# EAGLE library part POTENTIOMETER-4-FACH (library 1A-meinLib)
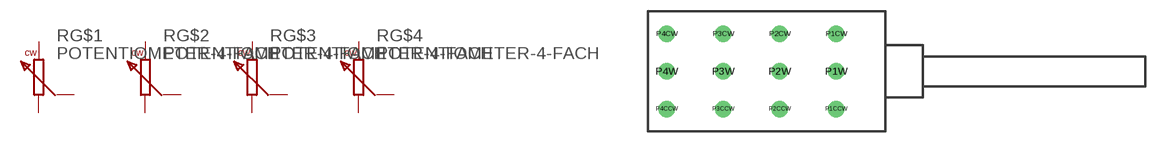
[diagram p271: symbol with the pads of POTENTIOMETER-4FACH; footprint POTENTIOMETER-4FACH]

Designator prefix R; gates G$1=POTENTIOMETER G$2=POTENTIOMETER G$3=POTENTIOMETER G$4=POTENTIOMETER

## POTENTIOMETER-4-FACH  [POTENTIOMETER-4FACH]
P1CCW  G$1:A  pas
P1CW  G$1:E  pas
P1W  G$1:S
P2CCW  G$2:A  pas
P2CW  G$2:E  pas
P2W  G$2:S
P3CCW  G$3:A  pas
P3CW  G$3:E  pas
P3W  G$3:S
P4CCW  G$4:A  pas
P4CW  G$4:E  pas
P4W  G$4:S

## Footprint POTENTIOMETER-4FACH (pad centres in mm)
4-fach Potentiometer, 50kOhm, linear, RUWIDO. Von Zuhause mitgebracht und der Uni geschenkt
drill 1.2 pad 2.184 round: P1CCW 0,-5; P1CW 0,5; P1W 0,0; P2CCW -7.5,-5; P2CW -7.5,5; P2W -7.5,0; P3CCW -15,-5; P3CW -15,5; P3W -15,0; P4CCW -22.5,-5; P4CW -22.5,5; P4W -22.5,0